# EAGLE library part SN75176 (library template)
The SN75176A differential bus transceiver is a monolithic integrated circuit designed for bidirectional data communication on multipoint bus-transmission lines. It is designed for balanced transmission lines and meets ANSI Standard EIA/TIA-422-B and ITU Recommendation V.11. The SN75176A combines a 3-state differential line driver and a differential input line receiver, both of which operate from a single 5-V power supply. The driver and receiver have active-high and active-low enables, respectively, that can be externally connected together to function as a direction control. The driver differential outputs and the receiver differential inputs are connected internally to form differential input/output (I/O) bus ports that are designed to offer minimum loading to the bus whenever the driver is disabled or VCC = 0. These ports feature wide positive and negative common-mode voltage ranges making the device suitable for party-line applications. The driver is designed to handle loads up to 60 mA of sink or source current. The driver features positive- and negative-current limiting and thermal shutdown for protection from line fault conditions. Thermal shutdown is designed to occur at a junction temperature of approximately 150°C. The receiver features a minimum input impedance of 12 kW, an input sensitivity of ±200 mV, and a typical input hysteresis of 50 mV. The SN75176A can be used in transmission-line applications employing the SN75172 and SN75174 quadruple differential line drivers and SN75173 and SN75175 quadruple differential line receivers. The SN75176A is characterized for operation from 0°C to 70°C.
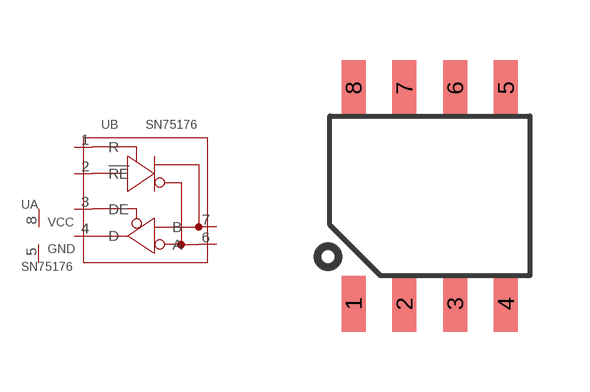
[diagram p35: symbol with the pads of SOIC8; footprint SOIC8]

Designator prefix U; gates A=PWR B=SN75176

## SN75176'ADR'  [SOIC8]
1  B:R
2  B:!RE
3  B:DE
4  B:D
5  A:GND
6  B:A
7  B:B
8  A:VCC

## Footprint SOIC8 (pad centres in mm)
smd 0.6 x 1.4: 1 -1.905,-2.7; 2 -0.635,-2.7; 3 0.635,-2.7; 4 1.905,-2.7; 5 1.905,2.7; 6 0.635,2.7; 7 -0.635,2.7; 8 -1.905,2.7